# EAGLE library part 45VA (library Traficon)
TRANSFORMER 1 primary windig + 1 primary winding with tap, 2 secondary windings, core ring
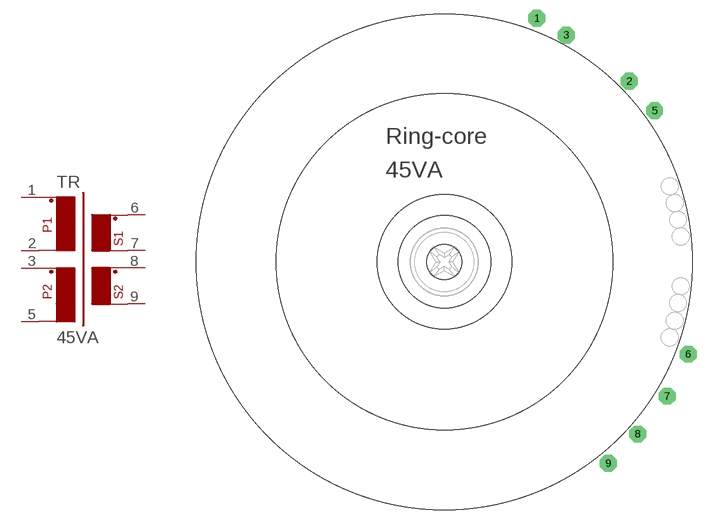
[diagram p55: symbol with the pads of 45VA; footprint 45VA]

Designator prefix TR

## 45VA  [45VA]
1  1  pas
2  2  pas
3  3  pas
5  5  pas
6  6  pas
7  7  pas
8  8  pas
9  9  pas

## Footprint 45VA (pad centres in mm)
TRANSFORMER 1 primary windig + 1 primary winding with tap, 2 secondary windings, core ring
drill 1.6 pad 2.54 octagon: 1 13.97,36.83; 2 27.94,27.305; 3 18.415,34.29; 5 31.75,22.86
drill 1.016 pad 2.54 octagon: 6 36.83,-13.97; 7 33.655,-20.32; 8 29.21,-26.035; 9 24.765,-30.48
hole 5.309 at 0,0